# EAGLE library part S6-LAK05 (library GW-devices)
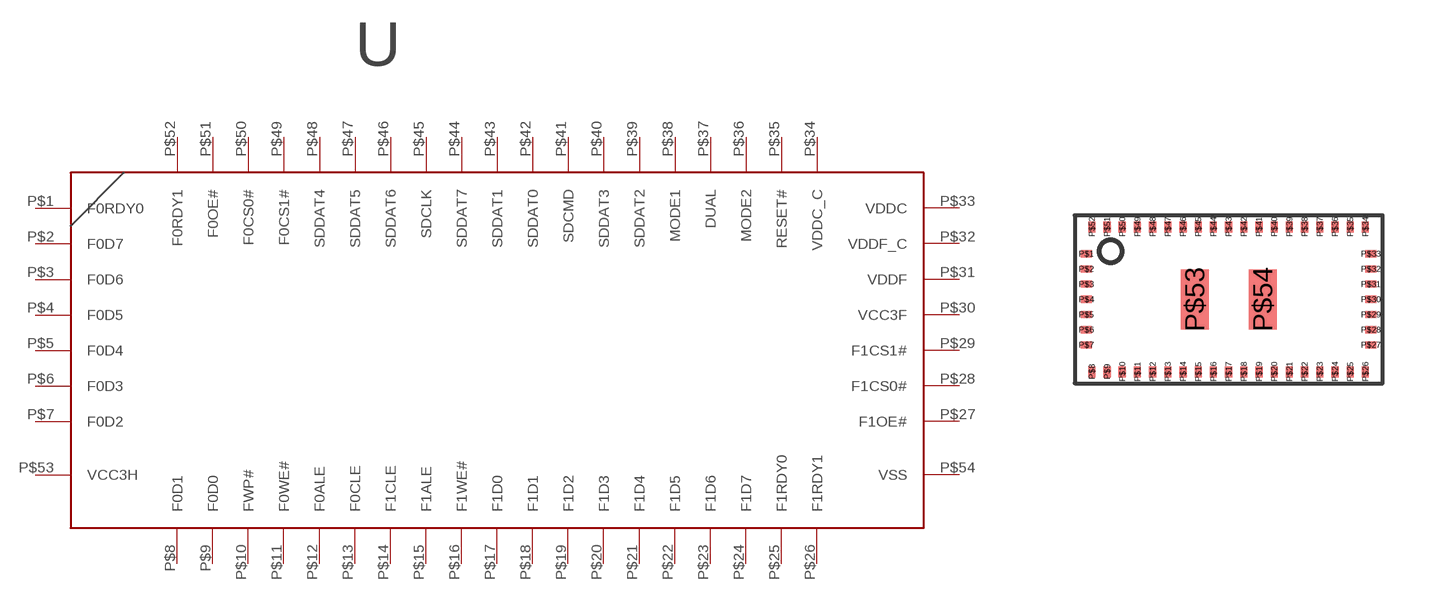
[diagram p24: symbol with the pads of S6-LAK05; footprint S6-LAK05]

Designator prefix -

## S6-LAK05  [S6-LAK05]
P$1  F0RDY0
P$2  F0D7
P$3  F0D6
P$4  F0D5
P$5  F0D4
P$6  F0D3
P$7  F0D2
P$8  F0D1
P$9  F0D0
P$10  FWP#
P$11  F0WE#
P$12  F0ALE
P$13  F0CLE
P$14  F1CLE
P$15  F1ALE
P$16  F1WE#
P$17  F1D0
P$18  F1D1
P$19  F1D2
P$20  F1D3
P$21  F1D4
P$22  F1D5
P$23  F1D6
P$24  F1D7
P$25  F1RDY0
P$26  F1RDY1
P$27  F1OE#
P$28  F1CS0#
P$29  F1CS1#
P$30  VCC3F
P$31  VDDF
P$32  VDDF_C
P$33  VDDC
P$34  VDDC_C
P$35  RESET#
P$36  MODE2
P$37  DUAL
P$38  MODE1
P$39  SDDAT2
P$40  SDDAT3
P$41  SDCMD
P$42  SDDAT0
P$43  SDDAT1
P$44  SDDAT7
P$45  SDCLK
P$46  SDDAT6
P$47  SDDAT5
P$48  SDDAT4
P$49  F0CS1#
P$50  F0CS0#
P$51  F0OE#
P$52  F0RDY1
P$53  VCC3H
P$54  VSS

## Footprint S6-LAK05 (pad centres in mm)
smd 0.275 x 0.18: P$1 -2.708,1.14; P$2 -2.708,0.76; P$3 -2.708,0.38; P$4 -2.708,0; P$5 -2.708,-0.38; P$6 -2.708,-0.76; P$7 -2.708,-1.14; P$27 4.407,-1.14; P$28 4.407,-0.76; P$29 4.407,-0.38; P$30 4.407,0; P$31 4.407,0.38; P$32 4.407,0.76; P$33 4.407,1.14
smd 0.18 x 0.275: P$8 -2.57,-1.812; P$9 -2.19,-1.812; P$10 -1.81,-1.812; P$11 -1.43,-1.812; P$12 -1.05,-1.812; P$13 -0.67,-1.812; P$14 -0.29,-1.812; P$15 0.09,-1.812; P$16 0.47,-1.812; P$17 0.85,-1.812; P$18 1.23,-1.812; P$19 1.61,-1.812; P$20 1.99,-1.812; P$21 2.37,-1.812; P$22 2.75,-1.812; P$23 3.13,-1.812; P$24 3.51,-1.812; P$25 3.89,-1.812; P$26 4.27,-1.812; P$34 4.27,1.812; P$35 3.89,1.812; P$36 3.51,1.812; P$37 3.13,1.812; P$38 2.75,1.812; P$39 2.37,1.812; P$40 1.99,1.812; P$41 1.61,1.812; P$42 1.23,1.812; P$43 0.85,1.812; P$44 0.47,1.812; P$45 0.09,1.812; P$46 -0.29,1.812; P$47 -0.67,1.812; P$48 -1.05,1.812; P$49 -1.43,1.812; P$50 -1.81,1.812; P$51 -2.19,1.812; P$52 -2.57,1.812
smd 0.7 x 1.5: P$53 0,0; P$54 1.7,0